# Altium schematic symbol library TE-1734248-5.Schlib: 1 symbol
Pins are listed as number, name and electrical type; pins without a type are passive.

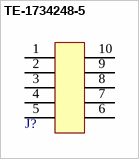
[diagram p0: symbol TE-1734248-5]

## TE-1734248-5
designator J?
pins: 1, 2, 3, 4, 5, 6, 7, 8, 9, 10